# EAGLE library part 214-3339-00-0602J (library con-3m)
Zero Insertion Force Socked Source: http://www.3M.com/ehpd
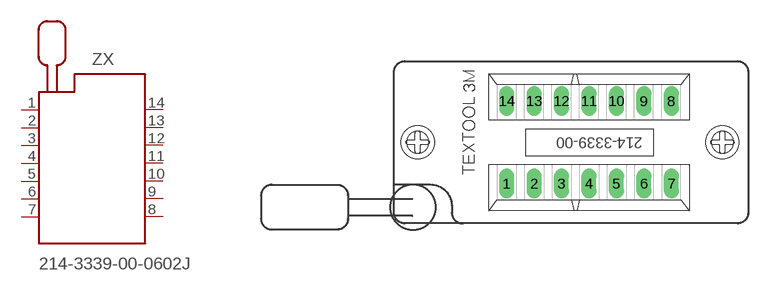
[diagram p4: symbol with the pads of 214-3339-00-0602J; footprint 214-3339-00-0602J]

Designator prefix ZX

## 214-3339-00-0602J  [214-3339-00-0602J]
1  1  pas
2  2  pas
3  3  pas
4  4  pas
5  5  pas
6  6  pas
7  7  pas
8  8  pas
9  9  pas
10  10  pas
11  11  pas
12  12  pas
13  13  pas
14  14  pas

## Footprint 214-3339-00-0602J (pad centres in mm)
3M TEXTOOL 14 pol. DIP Lever actuated zero insertion force mechanism Hersteller: 3M TEXTOOL Herstellerbez.: 214-3339-00-0602J Farnell Best.-Nr.: 4666290 Source: http://www.3M.com/ehpd
drill 0.9 long: 1 -7.62,-3.81; 2 -5.08,-3.81; 3 -2.54,-3.81; 4 0,-3.81; 5 2.54,-3.81; 6 5.08,-3.81; 7 7.62,-3.81; 8 7.62,3.81; 9 5.08,3.81; 10 2.54,3.81; 11 0,3.81; 12 -2.54,3.81; 13 -5.08,3.81; 14 -7.62,3.81
hole 2 at 12.35,0
hole 2 at -15.85,0